# EAGLE library part 804-312/000-006 (library con-wago_804)
Serie 804, Stand: 01.01.2012. Die jeweils aktuellen Daten zu diesem Artikel finden Sie in unserem Produktkatalog, den Sie unter www.wago.com einsehen können. As of: 01/01/2012. Please find the newest data for this article in our product catalogue, which can be viewed under www.wago.com.
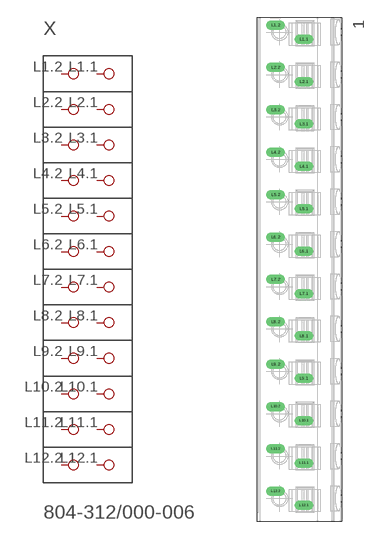
[diagram p71: symbol with the pads of P-804-312; footprint P-804-312]

Designator prefix X

## 804-312/000-006  [P-804-312]
L1.1  P1.1
L1.2  P1.2
L2.1  P2.1
L2.2  P2.2
L3.1  P3.1
L3.2  P3.2
L4.1  P4.1
L4.2  P4.2
L5.1  P5.1
L5.2  P5.2
L6.1  P6.1
L6.2  P6.2
L7.1  P7.1
L7.2  P7.2
L8.1  P8.1
L8.2  P8.2
L9.1  P9.1
L9.2  P9.2
L10.1  P10.1
L10.2  P10.2
L11.1  P11.1
L11.2  P11.2
L12.1  P12.1
L12.2  P12.2

## Footprint P-804-312 (pad centres in mm)
drill 1.1 long: L1.1 0.8,40.75; L1.2 -4.2,43.25; L2.1 0.8,33.25; L2.2 -4.2,35.75; L3.1 0.8,25.75; L3.2 -4.2,28.25; L4.1 0.8,18.25; L4.2 -4.2,20.75; L5.1 0.8,10.75; L5.2 -4.2,13.25; L6.1 0.8,3.25; L6.2 -4.2,5.75; L7.1 0.8,-4.25; L7.2 -4.2,-1.75; L8.1 0.8,-11.75; L8.2 -4.2,-9.25; L9.1 0.8,-19.25; L9.2 -4.2,-16.75; L10.1 0.8,-26.75; L10.2 -4.2,-24.25; L11.1 0.8,-34.25; L11.2 -4.2,-31.75; L12.1 0.8,-41.75; L12.2 -4.2,-39.25